# EAGLE library part MICROUSB (library zxuno_rev_mcleod)
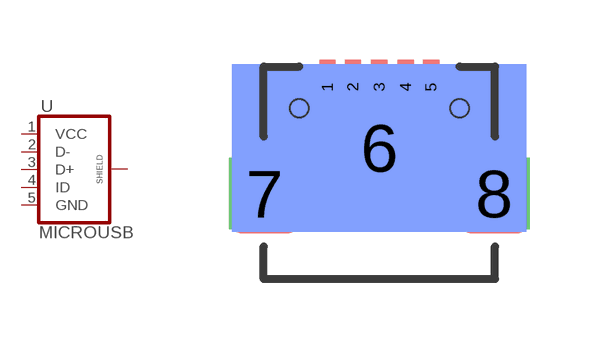
[diagram p4: symbol with the pads of MICRO_USB_1PRIMARY; footprint MICRO_USB_1PRIMARY]

Designator prefix -

## MICROUSB  [MICRO_USB_1PRIMARY]
1  VCC
2  D-
3  D+
4  ID
5  GND
6  SHIELD

## Footprint MICRO_USB_1PRIMARY (pad centres in mm)
Original name MICRO_USB
smd 0.406 x 1.346: 1 -1.295,0; 2 -0.66,0; 3 0,0; 4 0.66,0; 5 1.295,0
smd 7.366 x 4.191 bottom: 6 0,-1.524
drill 1.194 pad 1.538 square: 7 -2.87,-2.667; 8 2.87,-2.667
hole 0.457 at -2.007,-0.533
hole 0.457 at 2.007,-0.533